# Altium footprint library 74LVC1G3157GW_125.PcbLib: 2 footprints
Each footprint in its own frame and in the unit in brackets; x right, y up, seen from the top. Pads: shape width x height; smd on the part's side, far side on the other; paste and mask are expansions set on the pad; w line width, h text height; cw(c..) or ccw(c..) is an arc to the next point about the centre after c.
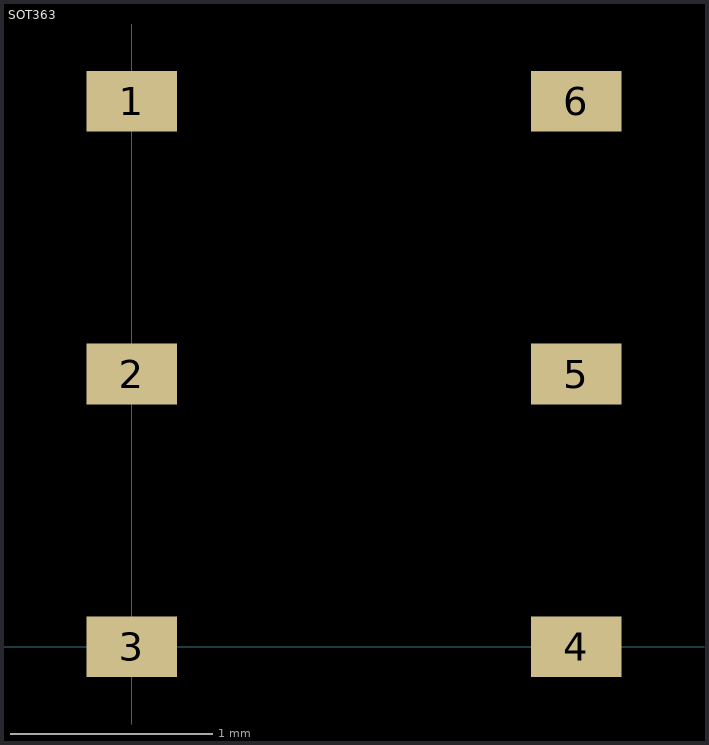
[diagram p0: the footprints below, top view; thin cyan lines are the x and y axes]

## PCBComponent_1 [mm]

## SOT363 [mm]
pads (6):
  rect 0.45x0.3 smd: 1(0,2.7) 2(0,1.35) 3(0,0) 4(2.2,0) 5(2.2,1.35) 6(2.2,2.7)